# EAGLE library part 74LVC2G241 (library 74LVC2G241)
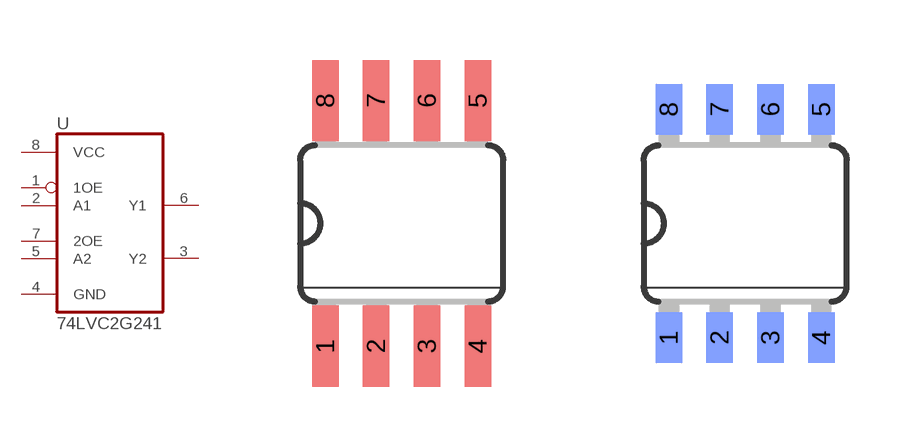
[diagram p0: symbol with the pads of SO08; footprints SO08, SO08TOP]

Designator prefix -

## 74LVC2G241  [SO08]
1  1OE  in
2  A1  in
3  Y2  hiz
4  GND  pwr
5  A2  in
6  Y1  hiz
7  2OE  in
8  VCC  pwr

## 74LVC2G241TOP  [SO08TOP]
Pads as for SO08

## Footprint SO08 (pad centres in mm)
smd 0.66 x 2.032: 1 -1.905,-3.073; 2 -0.635,-3.073; 3 0.635,-3.073; 4 1.905,-3.073; 5 1.905,3.073; 6 0.635,3.073; 7 -0.635,3.073; 8 -1.905,3.073

## Footprint SO08TOP (pad centres in mm)
smd 0.66 x 1.27 bottom: 1 -1.905,-2.857; 2 -0.635,-2.857; 3 0.635,-2.857; 4 1.905,-2.857; 5 1.905,2.857; 6 0.635,2.857; 7 -0.635,2.857; 8 -1.905,2.857